# Altium integrated library MolexMiniFitJr_3POS_RA_TH.IntLib: 1 symbol
Pins are listed as number, name and electrical type; pins without a type are passive.

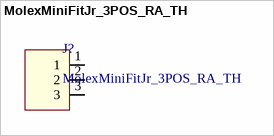
[diagram p0: symbol MolexMiniFitJr_3POS_RA_TH]

## MolexMiniFitJr_3POS_RA_TH
designator J?
CONN HEADER R/A 3POS 4.2MM / Manufacturer PN: 0039303036
footprint MolexMiniFitJr_3POS_RA_TH
pins: 1, 2, 3